# Altium integrated library Protel DOS Schematic Libraries.IntLib: 1273 symbols (part 9 of 9)
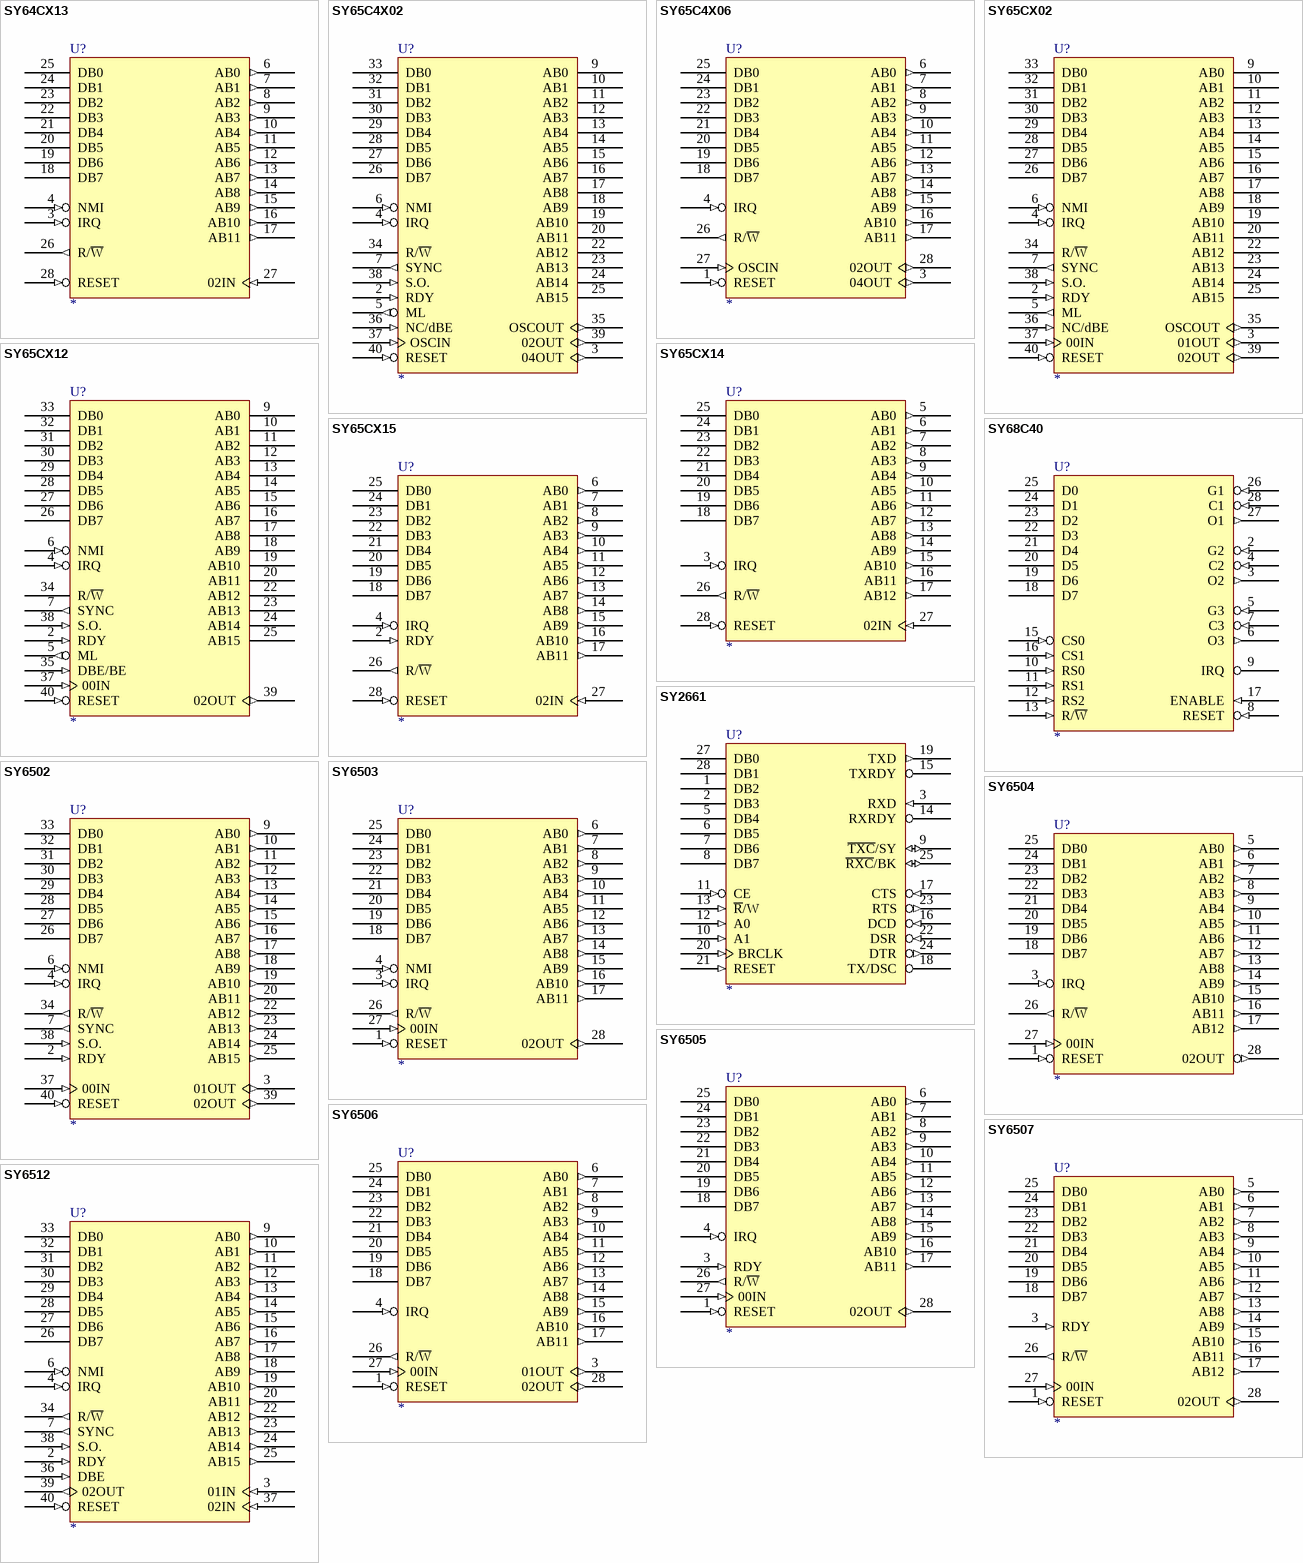
[diagram p77: symbols SY64CX13 to SY6512]

## SY6512
designator U?
footprint DIP-40
pins: 1 GND (power) hidden to GND, 2 RDY (in), 3 01IN (in), 4 IRQ (in), 5 GND (power) hidden to GND, 6 NMI (in), 7 SYNC (out), 8 VCC (power) hidden to VCC, 9 AB0 (out), 10 AB1 (out), 11 AB2 (out), 12 AB3 (out), 13 AB4 (out), 14 AB5 (out), 15 AB6 (out), 16 AB7 (out), 17 AB8 (out), 18 AB9 (out), 19 AB10 (out), 20 AB11 (out), 21 GND (power) hidden to GND, 22 AB12 (out), 23 AB13 (out), 24 AB14 (out), 25 AB15 (out), 26 DB7 (hiz), 27 DB6 (hiz), 28 DB5 (hiz), 29 DB4 (hiz), 30 DB3 (hiz), 31 DB2 (hiz), 32 DB1 (hiz), 33 DB0 (hiz), 34 R/~{W} (out), 36 DBE (in), 37 02IN (in), 38 S.O. (in), 39 02OUT (out), 40 RESET (in)

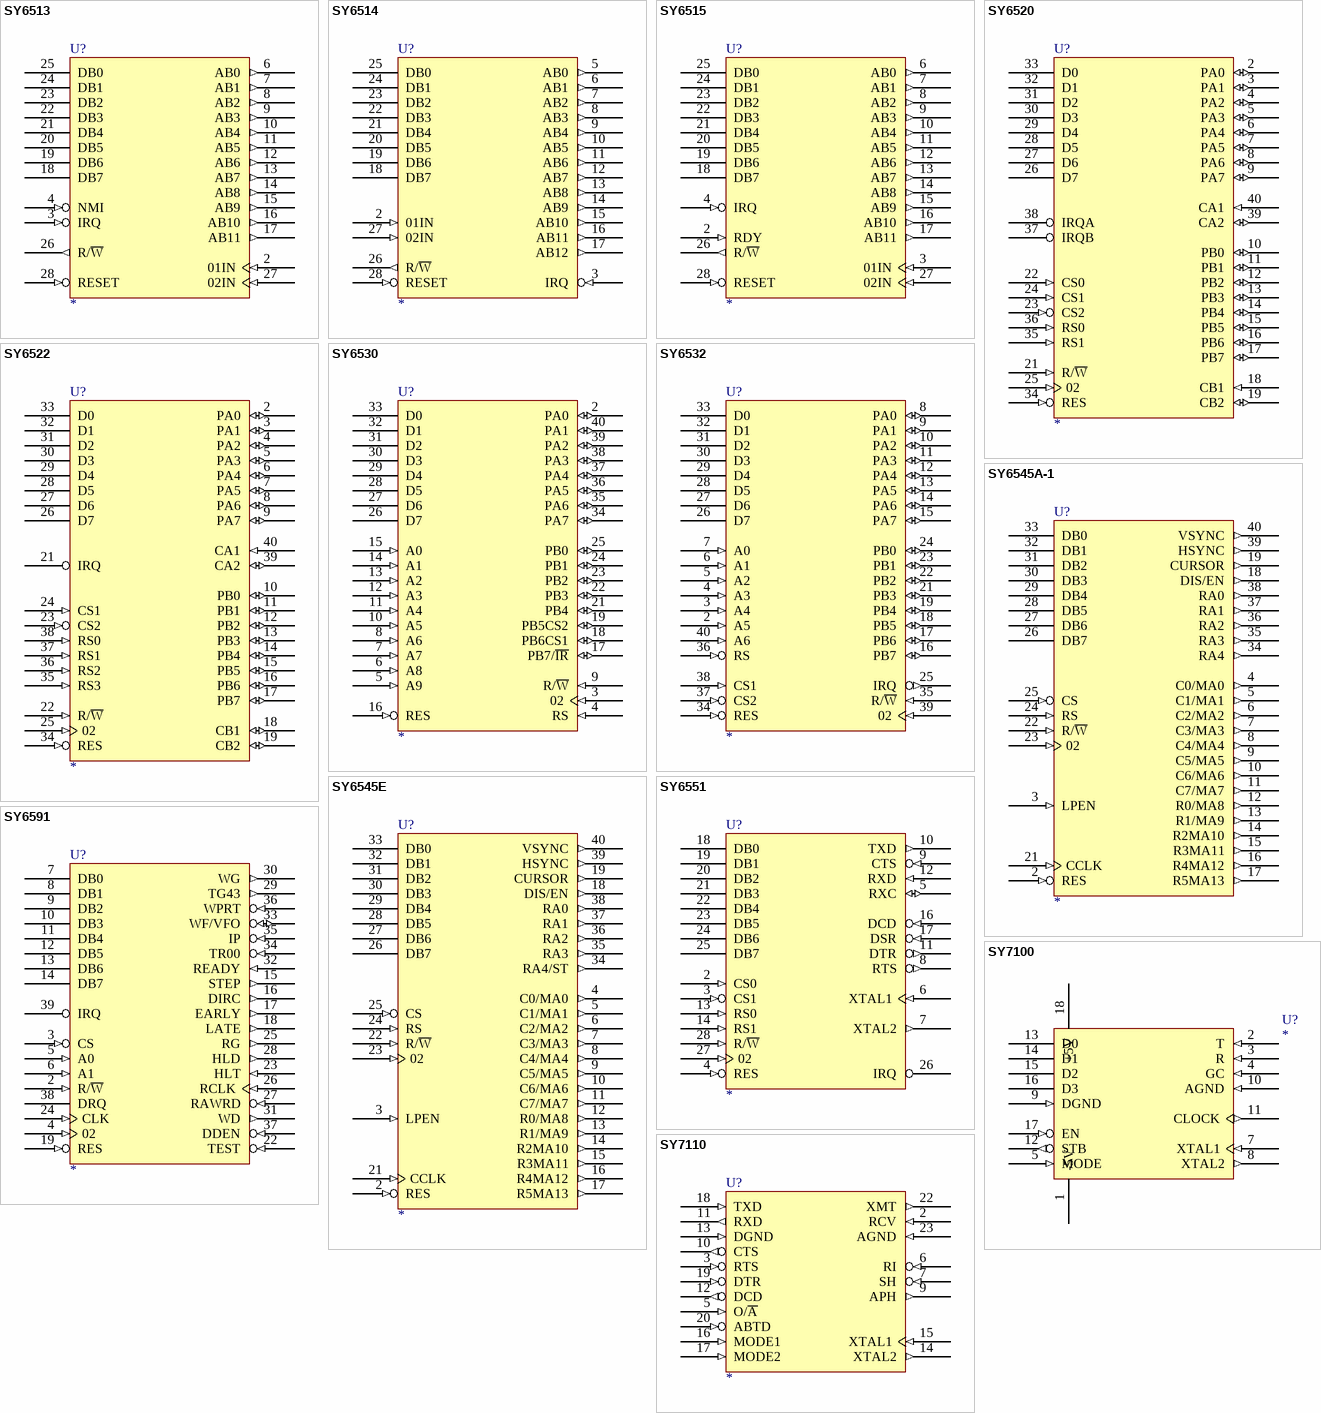
[diagram p66: symbols SY6513 to SY7110]

## SY6513
designator U?
footprint DIP-28
pins: 1 GND (power) hidden to GND, 2 01IN (in), 3 IRQ (in), 4 NMI (in), 5 VCC (power) hidden to VCC, 6 AB0 (out), 7 AB1 (out), 8 AB2 (out), 9 AB3 (out), 10 AB4 (out), 11 AB5 (out), 12 AB6 (out), 13 AB7 (out), 14 AB8 (out), 15 AB9 (out), 16 AB10 (out), 17 AB11 (out), 18 DB7 (hiz), 19 DB6 (hiz), 20 DB5 (hiz), 21 DB4 (hiz), 22 DB3 (hiz), 23 DB2 (hiz), 24 DB1 (hiz), 25 DB0 (hiz), 26 R/~{W} (out), 27 02IN (in), 28 RESET (in)

## SY6514
designator U?
footprint DIP-28
pins: 1 GND (power) hidden to GND, 2 01IN (in), 3 IRQ (in), 4 VCC (power) hidden to VCC, 5 AB0 (out), 6 AB1 (out), 7 AB2 (out), 8 AB3 (out), 9 AB4 (out), 10 AB5 (out), 11 AB6 (out), 12 AB7 (out), 13 AB8 (out), 14 AB9 (out), 15 AB10 (out), 16 AB11 (out), 17 AB12 (out), 18 DB7 (hiz), 19 DB6 (hiz), 20 DB5 (hiz), 21 DB4 (hiz), 22 DB3 (hiz), 23 DB2 (hiz), 24 DB1 (hiz), 25 DB0 (hiz), 26 R/~{W} (out), 27 02IN (in), 28 RESET (in)

## SY6515
designator U?
footprint DIP-28
pins: 1 GND (power) hidden to GND, 2 RDY (in), 3 01IN (in), 4 IRQ (in), 5 VCC (power) hidden to VCC, 6 AB0 (out), 7 AB1 (out), 8 AB2 (out), 9 AB3 (out), 10 AB4 (out), 11 AB5 (out), 12 AB6 (out), 13 AB7 (out), 14 AB8 (out), 15 AB9 (out), 16 AB10 (out), 17 AB11 (out), 18 DB7 (hiz), 19 DB6 (hiz), 20 DB5 (hiz), 21 DB4 (hiz), 22 DB3 (hiz), 23 DB2 (hiz), 24 DB1 (hiz), 25 DB0 (hiz), 26 R/~{W} (out), 27 02IN (in), 28 RESET (in)

## SY6520
designator U?
footprint DIP-40
pins: 1 GND (power) hidden to GND, 2 PA0 (io), 3 PA1 (io), 4 PA2 (io), 5 PA3 (io), 6 PA4 (io), 7 PA5 (io), 8 PA6 (io), 9 PA7 (io), 10 PB0 (io), 11 PB1 (io), 12 PB2 (io), 13 PB3 (io), 14 PB4 (io), 15 PB5 (io), 16 PB6 (io), 17 PB7 (io), 18 CB1 (in), 19 CB2 (io), 20 VCC (power) hidden to VCC, 21 R/~{W} (in), 22 CS0 (in), 23 CS2 (in), 24 CS1 (in), 25 02 (in), 26 D7 (hiz), 27 D6 (hiz), 28 D5 (hiz), 29 D4 (hiz), 30 D3 (hiz), 31 D2 (hiz), 32 D1 (hiz), 33 D0 (hiz), 34 RES (in), 35 RS1 (in), 36 RS0 (in), 37 IRQB (oc), 38 IRQA (oc), 39 CA2 (io), 40 CA1 (in)

## SY6522
designator U?
footprint DIP-40
pins: 1 GND (power) hidden to GND, 2 PA0 (io), 3 PA1 (io), 4 PA2 (io), 5 PA3 (io), 6 PA4 (io), 7 PA5 (io), 8 PA6 (io), 9 PA7 (io), 10 PB0 (io), 11 PB1 (io), 12 PB2 (io), 13 PB3 (io), 14 PB4 (io), 15 PB5 (io), 16 PB6 (io), 17 PB7 (io), 18 CB1 (io), 19 CB2 (io), 20 VCC (power) hidden to VCC, 21 IRQ (oc), 22 R/~{W} (in), 23 CS2 (in), 24 CS1 (in), 25 02 (in), 26 D7 (hiz), 27 D6 (hiz), 28 D5 (hiz), 29 D4 (hiz), 30 D3 (hiz), 31 D2 (hiz), 32 D1 (hiz), 33 D0 (hiz), 34 RES (in), 35 RS3 (in), 36 RS2 (in), 37 RS1 (in), 38 RS0 (in), 39 CA2 (io), 40 CA1 (in)

## SY6530
designator U?
footprint DIP-40
pins: 1 GND (power) hidden to GND, 2 PA0 (io), 3 02 (in), 4 RS (in), 5 A9 (in), 6 A8 (in), 7 A7 (in), 8 A6 (in), 9 R/~{W} (in), 10 A5 (in), 11 A4 (in), 12 A3 (in), 13 A2 (in), 14 A1 (in), 15 A0 (in), 16 RES (in), 17 PB7/~{IR} (io), 18 PB6CS1 (io), 19 PB5CS2 (io), 20 VCC (power) hidden to VCC, 21 PB4 (io), 22 PB3 (io), 23 PB2 (io), 24 PB1 (io), 25 PB0 (io), 26 D7 (hiz), 27 D6 (hiz), 28 D5 (hiz), 29 D4 (hiz), 30 D3 (hiz), 31 D2 (hiz), 32 D1 (hiz), 33 D0 (hiz), 34 PA7 (io), 35 PA6 (io), 36 PA5 (io), 37 PA4 (io), 38 PA3 (io), 39 PA2 (io), 40 PA1 (io)

## SY6532
designator U?
footprint DIP-40
pins: 1 GND (power) hidden to GND, 2 A5 (in), 3 A4 (in), 4 A3 (in), 5 A2 (in), 6 A1 (in), 7 A0 (in), 8 PA0 (io), 9 PA1 (io), 10 PA2 (io), 11 PA3 (io), 12 PA4 (io), 13 PA5 (io), 14 PA6 (io), 15 PA7 (io), 16 PB7 (io), 17 PB6 (io), 18 PB5 (io), 19 PB4 (io), 20 VCC (power) hidden to VCC, 21 PB3 (io), 22 PB2 (io), 23 PB1 (io), 24 PB0 (io), 25 IRQ (out), 26 D7 (hiz), 27 D6 (hiz), 28 D5 (hiz), 29 D4 (hiz), 30 D3 (hiz), 31 D2 (hiz), 32 D1 (hiz), 33 D0 (hiz), 34 RES (in), 35 R/~{W} (in), 36 RS (in), 37 CS2 (in), 38 CS1 (in), 39 02 (in), 40 A6 (in)

## SY6545A-1
designator U?
footprint DIP-40
pins: 1 GND (power) hidden to GND, 2 RES (in), 3 LPEN (in), 4 C0/MA0 (out), 5 C1/MA1 (out), 6 C2/MA2 (out), 7 C3/MA3 (out), 8 C4/MA4 (out), 9 C5/MA5 (out), 10 C6/MA6 (out), 11 C7/MA7 (out), 12 R0/MA8 (out), 13 R1/MA9 (out), 14 R2MA10 (out), 15 R3MA11 (out), 16 R4MA12 (out), 17 R5MA13 (out), 18 DIS/EN (out), 19 CURSOR (out), 20 VCC (power) hidden to VCC, 21 CCLK (in), 22 R/~{W} (in), 23 02 (in), 24 RS (in), 25 CS (in), 26 DB7 (hiz), 27 DB6 (hiz), 28 DB5 (hiz), 29 DB4 (hiz), 30 DB3 (hiz), 31 DB2 (hiz), 32 DB1 (hiz), 33 DB0 (hiz), 34 RA4 (out), 35 RA3 (out), 36 RA2 (out), 37 RA1 (out), 38 RA0 (out), 39 HSYNC (out), 40 VSYNC (out)

## SY6545E
designator U?
footprint DIP-40
pins: 1 GND (power) hidden to GND, 2 RES (in), 3 LPEN (in), 4 C0/MA0 (out), 5 C1/MA1 (out), 6 C2/MA2 (out), 7 C3/MA3 (out), 8 C4/MA4 (out), 9 C5/MA5 (out), 10 C6/MA6 (out), 11 C7/MA7 (out), 12 R0/MA8 (out), 13 R1/MA9 (out), 14 R2MA10 (out), 15 R3MA11 (out), 16 R4MA12 (out), 17 R5MA13 (out), 18 DIS/EN (out), 19 CURSOR (out), 20 VCC (power) hidden to VCC, 21 CCLK (in), 22 R/~{W} (in), 23 02 (in), 24 RS (in), 25 CS (in), 26 DB7 (hiz), 27 DB6 (hiz), 28 DB5 (hiz), 29 DB4 (hiz), 30 DB3 (hiz), 31 DB2 (hiz), 32 DB1 (hiz), 33 DB0 (hiz), 34 RA4/ST (out), 35 RA3 (out), 36 RA2 (out), 37 RA1 (out), 38 RA0 (out), 39 HSYNC (out), 40 VSYNC (out)

## SY6551
designator U?
footprint DIP-28
pins: 1 GND (power) hidden to GND, 2 CS0 (in), 3 CS1 (in), 4 RES (in), 5 RXC (io), 6 XTAL1 (in), 7 XTAL2 (out), 8 RTS (out), 9 CTS (in), 10 TXD (out), 11 DTR (out), 12 RXD (in), 13 RS0 (in), 14 RS1 (in), 15 VCC (power) hidden to VCC, 16 DCD (in), 17 DSR (in), 18 DB0 (hiz), 19 DB1 (hiz), 20 DB2 (hiz), 21 DB3 (hiz), 22 DB4 (hiz), 23 DB5 (hiz), 24 DB6 (hiz), 25 DB7 (hiz), 26 IRQ (oc), 27 02 (in), 28 R/~{W} (in)

## SY6591
designator U?
footprint DIP-40
pins: 2 R/~{W} (in), 3 CS (in), 4 02 (in), 5 A0 (in), 6 A1 (in), 7 DB0 (hiz), 8 DB1 (hiz), 9 DB2 (hiz), 10 DB3 (hiz), 11 DB4 (hiz), 12 DB5 (hiz), 13 DB6 (hiz), 14 DB7 (hiz), 15 STEP (out), 16 DIRC (out), 17 EARLY (out), 18 LATE (out), 19 RES (in), 20 GND (power) hidden to GND, 21 VCC (power) hidden to VCC, 22 TEST (in), 23 HLT (in), 24 CLK (in), 25 RG (out), 26 RCLK (in), 27 RAWRD (in), 28 HLD (out), 29 TG43 (out), 30 WG (out), 31 WD (out), 32 READY (in), 33 WF/VFO (io), 34 TR00 (in), 35 IP (in), 36 WPRT (in), 37 DDEN (in), 38 DRQ (oc), 39 IRQ (oc)

## SY7100
designator U?
footprint DIP-18
pins: 1 -5V (power), 2 T (in), 3 R (in), 4 GC (in), 5 MODE (in), 7 XTAL1 (in), 8 XTAL2 (out), 9 DGND (in), 10 AGND (in), 11 CLOCK (out), 12 STB (out), 13 D0 (hiz), 14 D1 (hiz), 15 D2 (hiz), 16 D3 (hiz), 17 EN (in), 18 +5V (power)

## SY7110
designator U?
footprint DIP-24
pins: 2 RCV (in), 3 RTS (in), 5 O/~{A} (in), 6 RI (in), 7 SH (in), 8 VCC (power) hidden to VCC, 9 APH (out), 10 CTS (out), 11 RXD (out), 12 DCD (out), 13 DGND (in), 14 XTAL2 (out), 15 XTAL1 (in), 16 MODE1 (in), 17 MODE2 (in), 18 TXD (in), 19 DTR (in), 20 ABTD (in), 22 XMT (out), 23 AGND (in), 24 GND (power) hidden to GND


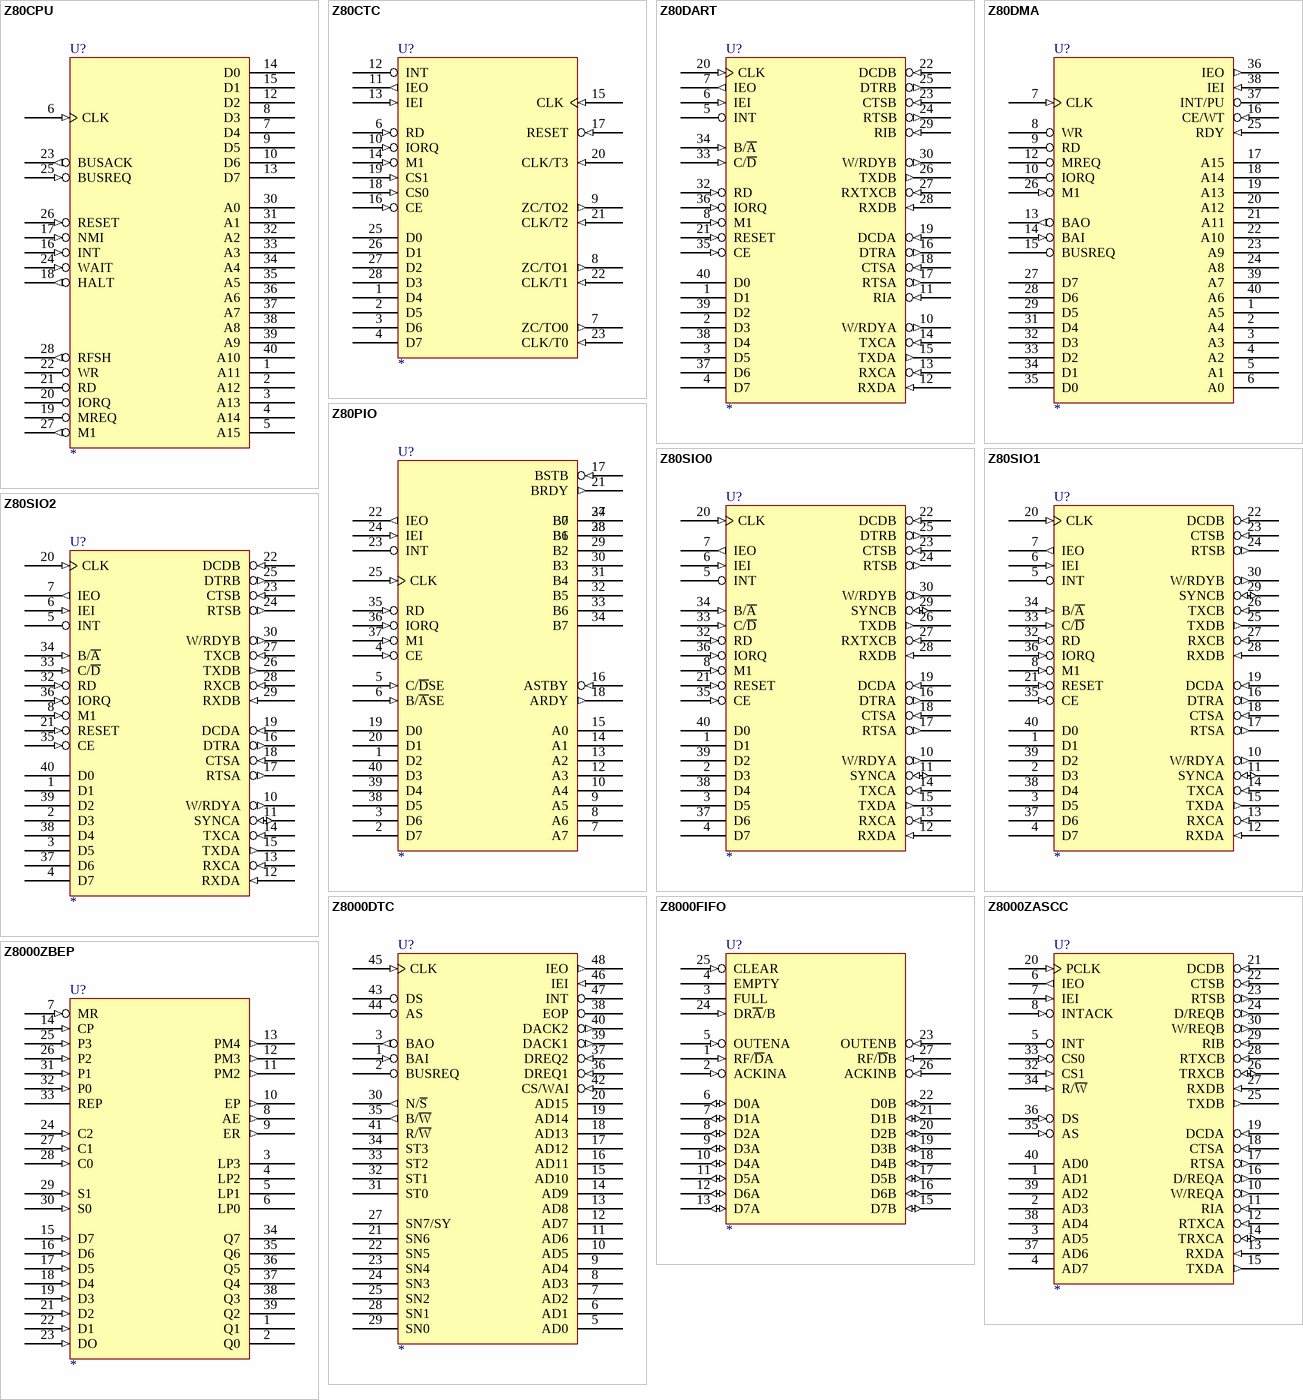
[diagram p67: symbols Z80CPU to Z8000ZBEP]

## Z80CPU
designator U?
footprint DIP-40
pins: 1 A11 (hiz), 2 A12 (hiz), 3 A13 (hiz), 4 A14 (hiz), 5 A15 (hiz), 6 CLK (in), 7 D4 (hiz), 8 D3 (hiz), 9 D5 (hiz), 10 D6 (hiz), 11 VCC (power) hidden to VCC, 12 D2 (hiz), 13 D7 (hiz), 14 D0 (hiz), 15 D1 (hiz), 16 INT (in), 17 NMI (in), 18 HALT (out), 19 MREQ (hiz), 20 IORQ (hiz), 21 RD (hiz), 22 WR (hiz), 23 BUSACK (out), 24 WAIT (in), 25 BUSREQ (in), 26 RESET (in), 27 M1 (out), 28 RFSH (out), 29 GND (power) hidden to GND, 30 A0 (hiz), 31 A1 (hiz), 32 A2 (hiz), 33 A3 (hiz), 34 A4 (hiz), 35 A5 (hiz), 36 A6 (hiz), 37 A7 (hiz), 38 A8 (hiz), 39 A9 (hiz), 40 A10 (hiz)

## Z80CTC
designator U?
footprint DIP-28
pins: 1 D4 (hiz), 2 D5 (hiz), 3 D6 (hiz), 4 D7 (hiz), 5 GND (power) hidden to GND, 6 RD (in), 7 ZC/TO0 (out), 8 ZC/TO1 (out), 9 ZC/TO2 (out), 10 IORQ (in), 11 IEO (out), 12 INT (oc), 13 IEI (in), 14 M1 (in), 15 CLK (in), 16 CE (in), 17 RESET (in), 18 CS0 (in), 19 CS1 (in), 20 CLK/T3 (in), 21 CLK/T2 (in), 22 CLK/T1 (in), 23 CLK/T0 (in), 24 VCC (power) hidden to VCC, 25 D0 (hiz), 26 D1 (hiz), 27 D2 (hiz), 28 D3 (hiz)

## Z80DART
designator U?
footprint DIP-40
pins: 1 D1 (hiz), 2 D3 (hiz), 3 D5 (hiz), 4 D7 (hiz), 5 INT (oc), 6 IEI (in), 7 IEO (out), 8 M1 (in), 9 VCC (power) hidden to VCC, 10 W/RDYA (out), 11 RIA (in), 12 RXDA (in), 13 RXCA (in), 14 TXCA (in), 15 TXDA (out), 16 DTRA (out), 17 RTSA (out), 18 CTSA (in), 19 DCDA (in), 20 CLK (in), 21 RESET (in), 22 DCDB (in), 23 CTSB (in), 24 RTSB (out), 25 DTRB (out), 26 TXDB (out), 27 RXTXCB (in), 28 RXDB (in), 29 RIB (in), 30 W/RDYB (out), 31 GND (power) hidden to GND, 32 RD (in), 33 C/~{D} (in), 34 B/~{A} (in), 35 CE (in), 36 IORQ (in), 37 D6 (hiz), 38 D4 (hiz), 39 D2 (hiz), 40 D0 (hiz)

## Z80DMA
designator U?
footprint DIP-40
pins: 1 A5 (hiz), 2 A4 (hiz), 3 A3 (hiz), 4 A2 (hiz), 5 A1 (hiz), 6 A0 (hiz), 7 CLK (in), 8 WR (hiz), 9 RD (hiz), 10 IORQ (hiz), 11 VCC (power) hidden to VCC, 12 MREQ (hiz), 13 BAO (out), 14 BAI (in), 15 BUSREQ (oc), 16 CE/WT (in), 17 A15 (hiz), 18 A14 (hiz), 19 A13 (hiz), 20 A12 (hiz), 21 A11 (hiz), 22 A10 (hiz), 23 A9 (hiz), 24 A8 (hiz), 25 RDY (in), 26 M1 (in), 27 D7 (hiz), 28 D6 (hiz), 29 D5 (hiz), 30 GND (power) hidden to GND, 31 D4 (hiz), 32 D3 (hiz), 33 D2 (hiz), 34 D1 (hiz), 35 D0 (hiz), 36 IEO (out), 37 INT/PU (oc), 38 IEI (in), 39 A7 (hiz), 40 A6 (hiz)

## Z80PIO
designator U?
footprint DIP-40
pins: 1 D2 (hiz), 2 D7 (hiz), 3 D6 (hiz), 4 CE (in), 5 C/~{D}SE (in), 6 B/~{A}SE (in), 7 A7 (hiz), 8 A6 (hiz), 9 A5 (hiz), 10 A4 (hiz), 11 GND (power) hidden to GND, 12 A3 (hiz), 13 A2 (hiz), 14 A1 (hiz), 15 A0 (hiz), 16 ASTBY (in), 17 BSTB (in), 18 ARDY (out), 19 D0 (hiz), 20 D1 (hiz), 21 BRDY (out), 22 IEO (out), 23 INT (oc), 24 IEI (in), 25 CLK (in), 26 VCC (power) hidden to VCC, 27 B0 (hiz), 28 B1 (hiz), 29 B2 (hiz), 30 B3 (hiz), 31 B4 (hiz), 32 B5 (hiz), 33 B6 (hiz), 33 B6 (hiz), 34 B7 (hiz), 34 B7 (hiz), 35 RD (in), 36 IORQ (in), 37 M1 (in), 38 D5 (hiz), 39 D4 (hiz), 40 D3 (hiz)

## Z80SIO0
designator U?
footprint DIP-40
pins: 1 D1 (hiz), 2 D3 (hiz), 3 D5 (hiz), 4 D7 (hiz), 5 INT (oc), 6 IEI (in), 7 IEO (out), 8 M1 (in), 9 VCC (power) hidden to VCC, 10 W/RDYA (out), 11 SYNCA (io), 12 RXDA (in), 13 RXCA (in), 14 TXCA (in), 15 TXDA (out), 16 DTRA (out), 17 RTSA (out), 18 CTSA (in), 19 DCDA (in), 20 CLK (in), 21 RESET (in), 22 DCDB (in), 23 CTSB (in), 24 RTSB (out), 25 DTRB (out), 26 TXDB (out), 27 RXTXCB (in), 28 RXDB (in), 29 SYNCB (io), 30 W/RDYB (out), 31 GND (power) hidden to GND, 32 RD (in), 33 C/~{D} (in), 34 B/~{A} (in), 35 CE (in), 36 IORQ (in), 37 D6 (hiz), 38 D4 (hiz), 39 D2 (hiz), 40 D0 (hiz)

## Z80SIO1
designator U?
footprint DIP-40
pins: 1 D1 (hiz), 2 D3 (hiz), 3 D5 (hiz), 4 D7 (hiz), 5 INT (oc), 6 IEI (in), 7 IEO (out), 8 M1 (in), 9 VCC (power) hidden to VCC, 10 W/RDYA (out), 11 SYNCA (io), 12 RXDA (in), 13 RXCA (in), 14 TXCA (in), 15 TXDA (out), 16 DTRA (out), 17 RTSA (out), 18 CTSA (in), 19 DCDA (in), 20 CLK (in), 21 RESET (in), 22 DCDB (in), 23 CTSB (in), 24 RTSB (out), 25 TXDB (out), 26 TXCB (in), 27 RXCB (in), 28 RXDB (in), 29 SYNCB (io), 30 W/RDYB (out), 31 GND (power) hidden to GND, 32 RD (in), 33 C/~{D} (in), 34 B/~{A} (in), 35 CE (in), 36 IORQ (in), 37 D6 (hiz), 38 D4 (hiz), 39 D2 (hiz), 40 D0 (hiz)

## Z80SIO2
designator U?
footprint DIP-40
pins: 1 D1 (hiz), 2 D3 (hiz), 3 D5 (hiz), 4 D7 (hiz), 5 INT (oc), 6 IEI (in), 7 IEO (out), 8 M1 (in), 9 VCC (power) hidden to VCC, 10 W/RDYA (out), 11 SYNCA (io), 12 RXDA (in), 13 RXCA (in), 14 TXCA (in), 15 TXDA (out), 16 DTRA (out), 17 RTSA (out), 18 CTSA (in), 19 DCDA (in), 20 CLK (in), 21 RESET (in), 22 DCDB (in), 23 CTSB (in), 24 RTSB (out), 25 DTRB (out), 26 TXDB (out), 27 TXCB (in), 28 RXCB (in), 29 RXDB (in), 30 W/RDYB (out), 31 GND (power) hidden to GND, 32 RD (in), 33 C/~{D} (in), 34 B/~{A} (in), 35 CE (in), 36 IORQ (in), 37 D6 (hiz), 38 D4 (hiz), 39 D2 (hiz), 40 D0 (hiz)

## Z8000DTC
designator U?
footprint DIP-48
pins: 1 BAI (in), 2 BUSREQ (hiz), 3 BAO (out), 4 VCC (power) hidden to VCC, 5 AD0 (hiz), 6 AD1 (hiz), 7 AD2 (hiz), 8 AD3 (hiz), 9 AD4 (hiz), 10 AD5 (hiz), 11 AD6 (hiz), 12 AD7 (hiz), 13 AD8 (hiz), 14 AD9 (hiz), 15 AD10 (hiz), 16 AD11 (hiz), 17 AD12 (hiz), 18 AD13 (hiz), 19 AD14 (hiz), 20 AD15 (hiz), 21 SN6 (hiz), 22 SN5 (hiz), 23 SN4 (hiz), 24 SN3 (hiz), 25 SN2 (hiz), 26 GND (power) hidden to GND, 27 SN7/SY (hiz), 28 SN1 (hiz), 29 SN0 (hiz), 30 N/~{S} (out), 31 ST0 (hiz), 32 ST1 (hiz), 33 ST2 (hiz), 34 ST3 (hiz), 35 B/~{W} (out), 36 DREQ1 (in), 37 DREQ2 (in), 38 EOP (hiz), 39 DACK1 (out), 40 DACK2 (out), 41 R/~{W} (hiz), 42 CS/WAI (in), 43 DS (hiz), 44 AS (hiz), 45 CLK (in), 46 IEI (in), 47 INT (oc), 48 IEO (out)

## Z8000FIFO
designator U?
footprint DIP-28
pins: 1 RF/~{D}A (in), 2 ACKINA (in), 3 FULL (oc), 4 EMPTY (oc), 5 OUTENA (in), 6 D0A (io), 7 D1A (io), 8 D2A (io), 9 D3A (io), 10 D4A (io), 11 D5A (io), 12 D6A (io), 13 D7A (io), 14 GND (power) hidden to GND, 15 D7B (io), 16 D6B (io), 17 D5B (io), 18 D4B (io), 19 D3B (io), 20 D2B (io), 21 D1B (io), 22 D0B (io), 23 OUTENB (in), 24 DR~{A}/B (in), 25 CLEAR (in), 26 ACKINB (in), 27 RF/~{D}B (in), 28 VCC (power) hidden to VCC

## Z8000ZASCC
designator U?
footprint DIP-40
pins: 1 AD1 (hiz), 2 AD3 (hiz), 3 AD5 (hiz), 4 AD7 (hiz), 5 INT (oc), 6 IEO (out), 7 IEI (in), 8 INTACK (in), 9 VCC (power) hidden to VCC, 10 W/REQA (out), 11 RIA (in), 12 RTXCA (in), 13 RXDA (in), 14 TRXCA (io), 15 TXDA (out), 16 D/REQA (out), 17 RTSA (out), 18 CTSA (in), 19 DCDA (in), 20 PCLK (in), 21 DCDB (in), 22 CTSB (in), 23 RTSB (out), 24 D/REQB (out), 25 TXDB (out), 26 TRXCB (io), 27 RXDB (in), 28 RTXCB (in), 29 RIB (in), 30 W/REQB (out), 31 GND (power) hidden to GND, 32 CS1 (in), 33 CS0 (in), 34 R/~{W} (in), 35 AS (in), 36 DS (in), 37 AD6 (hiz), 38 AD4 (hiz), 39 AD2 (hiz), 40 AD0 (hiz)

## Z8000ZBEP
designator U?
footprint DIP-40
pins: 1 Q1 (hiz), 2 Q0 (hiz), 3 LP3 (hiz), 4 LP2 (hiz), 5 LP1 (hiz), 6 LP0 (hiz), 7 MR (in), 8 AE (out), 9 ER (out), 10 EP (out), 11 PM2 (out), 12 PM3 (out), 13 PM4 (out), 14 CP (in), 15 D7 (in), 16 D6 (in), 17 D5 (in), 18 D4 (in), 19 D3 (in), 20 GND (power) hidden to GND, 21 D2 (in), 22 D1 (in), 23 DO (in), 24 C2 (in), 25 P3 (in), 26 P2 (in), 27 C1 (in), 28 C0 (in), 29 S1 (in), 30 S0 (in), 31 P1 (in), 32 P0 (in), 33 REP (hiz), 34 Q7 (hiz), 35 Q6 (hiz), 36 Q5 (hiz), 37 Q4 (hiz), 38 Q3 (hiz), 39 Q2 (hiz), 40 VCC (power) hidden to VCC

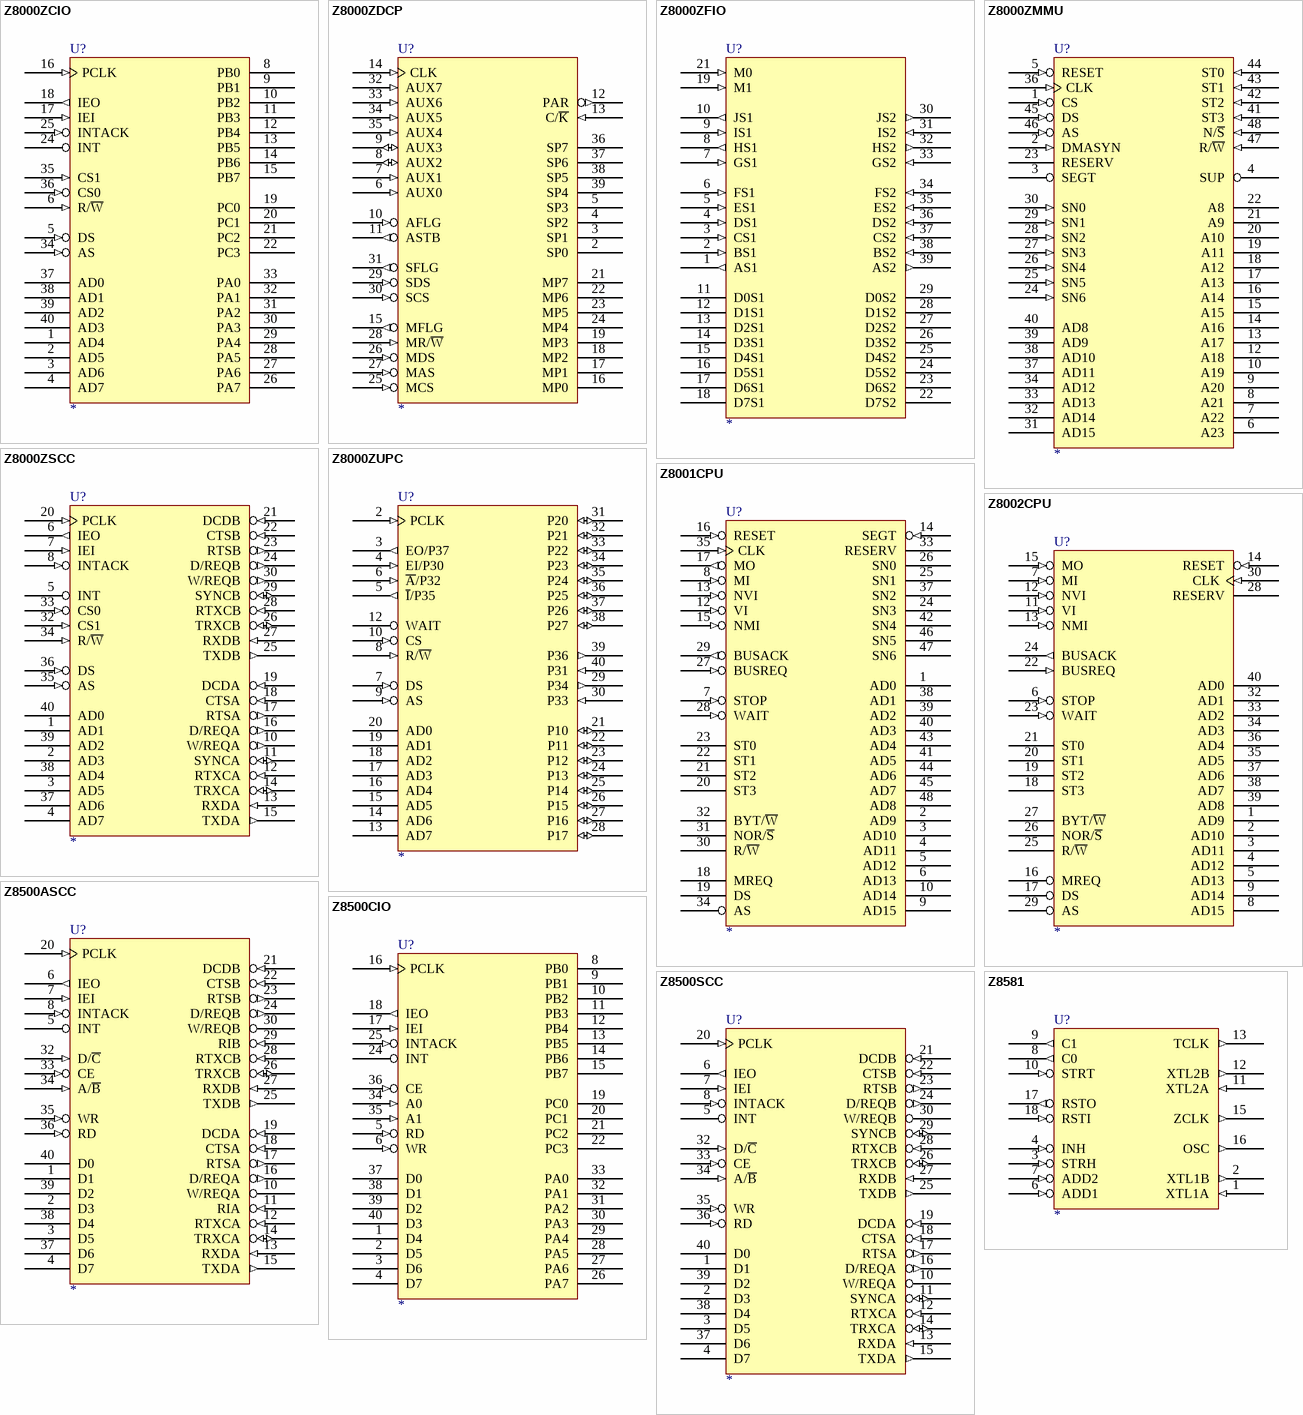
[diagram p68: symbols Z8000ZCIO to Z8581]

## Z8000ZCIO
designator U?
footprint DIP-40
pins: 1 AD4 (hiz), 2 AD5 (hiz), 3 AD6 (hiz), 4 AD7 (hiz), 5 DS (in), 6 R/~{W} (in), 7 GND (power) hidden to GND, 8 PB0 (hiz), 9 PB1 (hiz), 10 PB2 (hiz), 11 PB3 (hiz), 12 PB4 (hiz), 13 PB5 (hiz), 14 PB6 (hiz), 15 PB7 (hiz), 16 PCLK (in), 17 IEI (in), 18 IEO (out), 19 PC0 (hiz), 20 PC1 (hiz), 21 PC2 (hiz), 22 PC3 (hiz), 23 VCC (power) hidden to VCC, 24 INT (oc), 25 INTACK (in), 26 PA7 (hiz), 27 PA6 (hiz), 28 PA5 (hiz), 29 PA4 (hiz), 30 PA3 (hiz), 31 PA2 (hiz), 32 PA1 (hiz), 33 PA0 (hiz), 34 AS (in), 35 CS1 (in), 36 CS0 (in), 37 AD0 (hiz), 38 AD1 (hiz), 39 AD2 (hiz), 40 AD3 (hiz)

## Z8000ZDCP
designator U?
footprint DIP-40
pins: 1 GND (power) hidden to GND, 2 SP0 (hiz), 3 SP1 (hiz), 4 SP2 (hiz), 5 SP3 (hiz), 6 AUX0 (in), 7 AUX1 (in), 8 AUX2 (io), 9 AUX3 (io), 10 AFLG (in), 11 ASTB (out), 12 PAR (out), 13 C/~{K} (in), 14 CLK (in), 15 MFLG (out), 16 MP0 (hiz), 17 MP1 (hiz), 18 MP2 (hiz), 19 MP3 (hiz), 20 GND (power) hidden to GND, 21 MP7 (hiz), 22 MP6 (hiz), 23 MP5 (hiz), 24 MP4 (hiz), 25 MCS (in), 26 MDS (in), 27 MAS (in), 28 MR/~{W} (in), 29 SDS (in), 30 SCS (in), 31 SFLG (out), 32 AUX7 (in), 33 AUX6 (in), 34 AUX5 (in), 35 AUX4 (in), 36 SP7 (hiz), 37 SP6 (hiz), 38 SP5 (hiz), 39 SP4 (hiz), 40 VCC (power) hidden to VCC

## Z8000ZFIO
designator U?
footprint DIP-40
pins: 1 AS1 (out), 2 BS1 (in), 3 CS1 (in), 4 DS1 (in), 5 ES1 (in), 6 FS1 (in), 7 GS1 (in), 8 HS1 (out), 9 IS1 (in), 10 JS1 (out), 11 D0S1 (hiz), 12 D1S1 (hiz), 13 D2S1 (hiz), 14 D3S1 (hiz), 15 D4S1 (hiz), 16 D5S1 (hiz), 17 D6S1 (hiz), 18 D7S1 (hiz), 19 M1 (in), 20 GND (power) hidden to GND, 21 M0 (in), 22 D7S2 (hiz), 23 D6S2 (hiz), 24 D5S2 (hiz), 25 D4S2 (hiz), 26 D3S2 (hiz), 27 D2S2 (hiz), 28 D1S2 (hiz), 29 D0S2 (hiz), 30 JS2 (out), 31 IS2 (in), 32 HS2 (out), 33 GS2 (in), 34 FS2 (in), 35 ES2 (in), 36 DS2 (in), 37 CS2 (in), 38 BS2 (in), 39 AS2 (out), 40 VCC (power) hidden to VCC

## Z8000ZMMU
designator U?
footprint DIP-48
pins: 1 CS (in), 2 DMASYN (in), 3 SEGT (oc), 4 SUP (oc), 5 RESET (in), 6 A23 (hiz), 7 A22 (hiz), 8 A21 (hiz), 9 A20 (hiz), 10 A19 (hiz), 11 VCC (power) hidden to VCC, 12 A18 (hiz), 13 A17 (hiz), 14 A16 (hiz), 15 A15 (hiz), 16 A14 (hiz), 17 A13 (hiz), 18 A12 (hiz), 19 A11 (hiz), 20 A10 (hiz), 21 A9 (hiz), 22 A8 (hiz), 23 RESERV, 24 SN6 (in), 25 SN5 (in), 26 SN4 (in), 27 SN3 (in), 28 SN2 (in), 29 SN1 (in), 30 SN0 (in), 31 AD15 (hiz), 32 AD14 (hiz), 33 AD13 (hiz), 34 AD12 (hiz), 35 GND (power) hidden to GND, 36 CLK (in), 37 AD11 (hiz), 38 AD10 (hiz), 39 AD9 (hiz), 40 AD8 (hiz), 41 ST3 (in), 42 ST2 (in), 43 ST1 (in), 44 ST0 (in), 45 DS (in), 46 AS (in), 47 R/~{W} (in), 48 N/~{S} (in)

## Z8000ZSCC
designator U?
footprint DIP-40
pins: 1 AD1 (hiz), 2 AD3 (hiz), 3 AD5 (hiz), 4 AD7 (hiz), 5 INT (oc), 6 IEO (out), 7 IEI (in), 8 INTACK (in), 9 VCC (power) hidden to VCC, 10 W/REQA (out), 11 SYNCA (io), 12 RTXCA (in), 13 RXDA (in), 14 TRXCA (io), 15 TXDA (out), 16 D/REQA (out), 17 RTSA (out), 18 CTSA (in), 19 DCDA (in), 20 PCLK (in), 21 DCDB (in), 22 CTSB (in), 23 RTSB (out), 24 D/REQB (out), 25 TXDB (out), 26 TRXCB (io), 27 RXDB (in), 28 RTXCB (in), 29 SYNCB (io), 30 W/REQB (out), 31 GND (power) hidden to GND, 32 CS1 (in), 33 CS0 (in), 34 R/~{W} (in), 35 AS (in), 36 DS (in), 37 AD6 (hiz), 38 AD4 (hiz), 39 AD2 (hiz), 40 AD0 (hiz)

## Z8000ZUPC
designator U?
footprint DIP-40
pins: 1 VCC (power) hidden to VCC, 2 PCLK (in), 3 EO/P37 (out), 4 EI/P30 (in), 5 ~{I}/P35 (out), 6 ~{A}/P32 (in), 7 DS (in), 8 R/~{W} (in), 9 AS (in), 10 CS (in), 11 GND (power) hidden to GND, 12 WAIT (oc), 13 AD7 (hiz), 14 AD6 (hiz), 15 AD5 (hiz), 16 AD4 (hiz), 17 AD3 (hiz), 18 AD2 (hiz), 19 AD1 (hiz), 20 AD0 (hiz), 21 P10 (io), 22 P11 (io), 23 P12 (io), 24 P13 (io), 25 P14 (io), 26 P15 (io), 27 P16 (io), 28 P17 (io), 29 P34 (out), 30 P33 (in), 31 P20 (io), 32 P21 (io), 33 P22 (io), 34 P23 (io), 35 P24 (io), 36 P25 (io), 37 P26 (io), 38 P27 (io), 39 P36 (out), 40 P31 (in)

## Z8001CPU
designator U?
footprint DIP-48
pins: 1 AD0 (hiz), 2 AD9 (hiz), 3 AD10 (hiz), 4 AD11 (hiz), 5 AD12 (hiz), 6 AD13 (hiz), 7 STOP (in), 8 MI (in), 9 AD15 (hiz), 10 AD14 (hiz), 11 VCC (power) hidden to VCC, 12 VI (in), 13 NVI (in), 14 SEGT (in), 15 NMI (in), 16 RESET (in), 17 MO (out), 18 MREQ (hiz), 19 DS (hiz), 20 ST3 (hiz), 21 ST2 (hiz), 22 ST1 (hiz), 23 ST0 (hiz), 24 SN3 (hiz), 25 SN1 (hiz), 26 SN0 (hiz), 27 BUSREQ (in), 28 WAIT (in), 29 BUSACK (out), 30 R/~{W} (hiz), 31 NOR/~{S} (hiz), 32 BYT/~{W} (hiz), 33 RESERV, 34 AS (hiz), 35 CLK (in), 36 GND (power) hidden to GND, 37 SN2 (hiz), 38 AD1 (hiz), 39 AD2 (hiz), 40 AD3 (hiz), 41 AD5 (hiz), 42 SN4 (hiz), 43 AD4 (hiz), 44 AD6 (hiz), 45 AD7 (hiz), 46 SN5 (hiz), 47 SN6 (hiz), 48 AD8 (hiz)

## Z8002CPU
designator U?
footprint DIP-40
pins: 1 AD9 (hiz), 2 AD10 (hiz), 3 AD11 (hiz), 4 AD12 (hiz), 5 AD13 (hiz), 6 STOP (in), 7 MI (in), 8 AD15 (hiz), 9 AD14 (hiz), 10 VCC (power) hidden to VCC, 11 VI (in), 12 NVI (in), 13 NMI (in), 14 RESET (in), 15 MO (in), 16 MREQ (hiz), 17 DS (hiz), 18 ST3 (hiz), 19 ST2 (hiz), 20 ST1 (hiz), 21 ST0 (hiz), 22 BUSREQ (in), 23 WAIT (in), 24 BUSACK (out), 25 R/~{W} (hiz), 26 NOR/~{S} (hiz), 27 BYT/~{W} (hiz), 28 RESERV, 29 AS (hiz), 30 CLK (in), 31 GND (power) hidden to GND, 32 AD1 (hiz), 33 AD2 (hiz), 34 AD3 (hiz), 35 AD5 (hiz), 36 AD4 (hiz), 37 AD6 (hiz), 38 AD7 (hiz), 39 AD8 (hiz), 40 AD0 (hiz)

## Z8500ASCC
designator U?
footprint DIP-40
pins: 1 D1 (hiz), 2 D3 (hiz), 3 D5 (hiz), 4 D7 (hiz), 5 INT (oc), 6 IEO (out), 7 IEI (in), 8 INTACK (in), 9 VCC (power) hidden to VCC, 10 W/REQA (oc), 11 RIA (in), 12 RTXCA (in), 13 RXDA (in), 14 TRXCA (io), 15 TXDA (out), 16 D/REQA (out), 17 RTSA (out), 18 CTSA (in), 19 DCDA (in), 20 PCLK (in), 21 DCDB (in), 22 CTSB (in), 23 RTSB (out), 24 D/REQB (out), 25 TXDB (out), 26 TRXCB (io), 27 RXDB (in), 28 RTXCB (in), 29 RIB (in), 30 W/REQB (oc), 31 GND (power) hidden to GND, 32 D/~{C} (in), 33 CE (in), 34 A/~{B} (in), 35 WR (in), 36 RD (in), 37 D6 (hiz), 38 D4 (hiz), 39 D2 (hiz), 40 D0 (hiz)

## Z8500CIO
designator U?
footprint DIP-40
pins: 1 D4 (hiz), 2 D5 (hiz), 3 D6 (hiz), 4 D7 (hiz), 5 RD (in), 6 WR (in), 7 GND (power) hidden to GND, 8 PB0 (hiz), 9 PB1 (hiz), 10 PB2 (hiz), 11 PB3 (hiz), 12 PB4 (hiz), 13 PB5 (hiz), 14 PB6 (hiz), 15 PB7 (hiz), 16 PCLK (in), 17 IEI (in), 18 IEO (out), 19 PC0 (hiz), 20 PC1 (hiz), 21 PC2 (hiz), 22 PC3 (hiz), 23 VCC (power) hidden to VCC, 24 INT (oc), 25 INTACK (in), 26 PA7 (hiz), 27 PA6 (hiz), 28 PA5 (hiz), 29 PA4 (hiz), 30 PA3 (hiz), 31 PA2 (hiz), 32 PA1 (hiz), 33 PA0 (hiz), 34 A0 (in), 35 A1 (in), 36 CE (in), 37 D0 (hiz), 38 D1 (hiz), 39 D2 (hiz), 40 D3 (hiz)

## Z8500SCC
designator U?
footprint DIP-40
pins: 1 D1 (hiz), 2 D3 (hiz), 3 D5 (hiz), 4 D7 (hiz), 5 INT (oc), 6 IEO (out), 7 IEI (in), 8 INTACK (in), 9 VCC (power) hidden to VCC, 10 W/REQA (oc), 11 SYNCA (io), 12 RTXCA (in), 13 RXDA (in), 14 TRXCA (io), 15 TXDA (out), 16 D/REQA (out), 17 RTSA (out), 18 CTSA (in), 19 DCDA (in), 20 PCLK (in), 21 DCDB (in), 22 CTSB (in), 23 RTSB (out), 24 D/REQB (out), 25 TXDB (out), 26 TRXCB (io), 27 RXDB (in), 28 RTXCB (in), 29 SYNCB (io), 30 W/REQB (oc), 31 GND (power) hidden to GND, 32 D/~{C} (in), 33 CE (in), 34 A/~{B} (in), 35 WR (in), 36 RD (in), 37 D6 (hiz), 38 D4 (hiz), 39 D2 (hiz), 40 D0 (hiz)

## Z8581
designator U?
footprint DIP-18
pins: 1 XTL1A (in), 2 XTL1B (out), 3 STRH (in), 4 INH (in), 5 VCC (power) hidden to VCC, 6 ADD1 (in), 7 ADD2 (in), 8 C0 (out), 9 C1 (out), 10 STRT (in), 11 XTL2A (in), 12 XTL2B (out), 13 TCLK (out), 14 GND (power) hidden to GND, 15 ZCLK (out), 16 OSC (out), 17 RSTO (out), 18 RSTI (in)

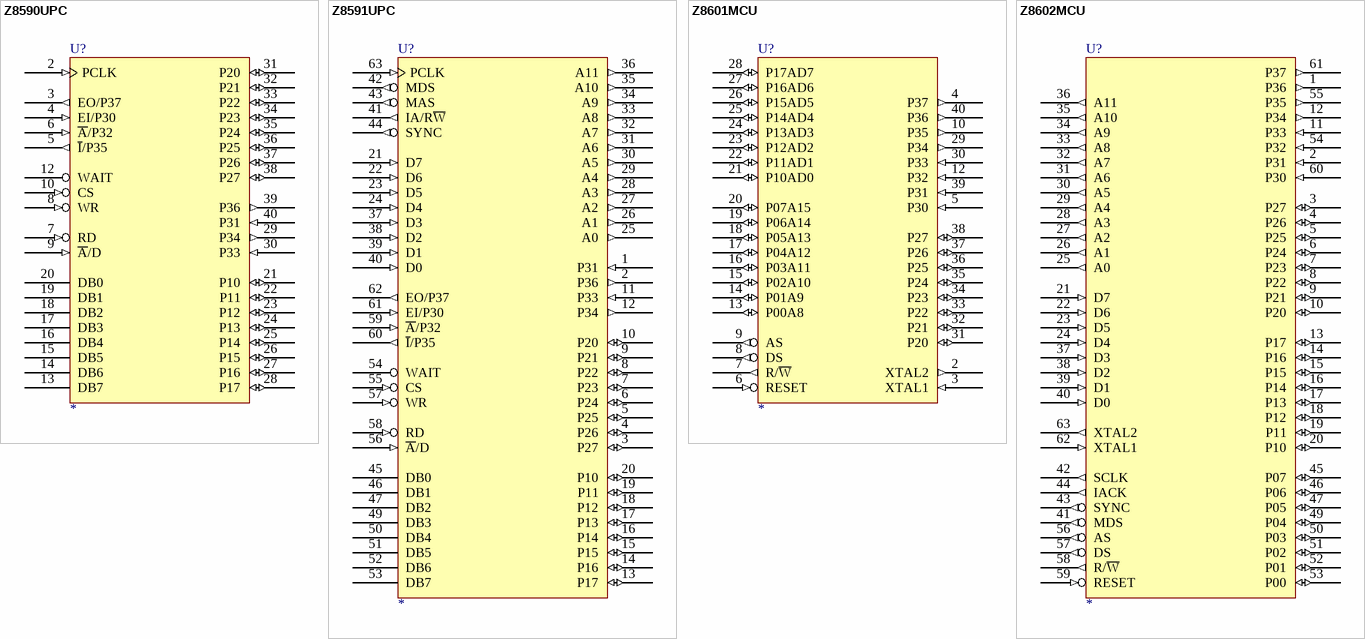
[diagram p69: symbols Z8590UPC to Z8602MCU]

## Z8590UPC
designator U?
footprint DIP-40
pins: 1 VCC (power) hidden to VCC, 2 PCLK (in), 3 EO/P37 (out), 4 EI/P30 (in), 5 ~{I}/P35 (out), 6 ~{A}/P32 (in), 7 RD (in), 8 WR (in), 9 ~{A}/D (in), 10 CS (in), 11 GND (power) hidden to GND, 12 WAIT (oc), 13 DB7 (hiz), 14 DB6 (hiz), 15 DB5 (hiz), 16 DB4 (hiz), 17 DB3 (hiz), 18 DB2 (hiz), 19 DB1 (hiz), 20 DB0 (hiz), 21 P10 (io), 22 P11 (io), 23 P12 (io), 24 P13 (io), 25 P14 (io), 26 P15 (io), 27 P16 (io), 28 P17 (io), 29 P34 (out), 30 P33 (in), 31 P20 (io), 32 P21 (io), 33 P22 (io), 34 P23 (io), 35 P24 (io), 36 P25 (io), 37 P26 (io), 38 P27 (io), 39 P36 (out), 40 P31 (in)

## Z8591UPC
designator U?
footprint DIP-64
pins: 1 P31 (in), 2 P36 (out), 3 P27 (io), 4 P26 (io), 5 P25 (io), 6 P24 (io), 7 P23 (io), 8 P22 (io), 9 P21 (io), 10 P20 (io), 11 P33 (in), 12 P34 (out), 13 P17 (io), 14 P16 (io), 15 P15 (io), 16 P14 (io), 17 P13 (io), 18 P12 (io), 19 P11 (io), 20 P10 (io), 21 D7 (in), 22 D6 (in), 23 D5 (in), 24 D4 (in), 25 A0 (out), 26 A1 (out), 27 A2 (out), 28 A3 (out), 29 A4 (out), 30 A5 (out), 31 A6 (out), 32 A7 (out), 33 A8 (out), 34 A9 (out), 35 A10 (out), 36 A11 (out), 37 D3 (in), 38 D2 (in), 39 D1 (in), 40 D0 (in), 41 IA/R~{W} (out), 42 MDS (out), 43 MAS (out), 44 SYNC (out), 45 DB0 (hiz), 46 DB1 (hiz), 47 DB2 (hiz), 48 GND (power) hidden to GND, 49 DB3 (hiz), 50 DB4 (hiz), 51 DB5 (hiz), 52 DB6 (hiz), 53 DB7 (hiz), 54 WAIT (oc), 55 CS (in), 56 ~{A}/D (in), 57 WR (in), 58 RD (in), 59 ~{A}/P32 (in), 60 ~{I}/P35 (out), 61 EI/P30 (in), 62 EO/P37 (out), 63 PCLK (in), 64 VCC (power) hidden to VCC

## Z8601MCU
designator U?
footprint DIP-40
pins: 1 VCC (power) hidden to VCC, 2 XTAL2 (out), 3 XTAL1 (in), 4 P37 (out), 5 P30 (in), 6 RESET (in), 7 R/~{W} (out), 8 DS (out), 9 AS (out), 10 P35 (out), 11 GND (power) hidden to GND, 12 P32 (in), 13 P00A8 (io), 14 P01A9 (io), 15 P02A10 (io), 16 P03A11 (io), 17 P04A12 (io), 18 P05A13 (io), 19 P06A14 (io), 20 P07A15 (io), 21 P10AD0 (io), 22 P11AD1 (io), 23 P12AD2 (io), 24 P13AD3 (io), 25 P14AD4 (io), 26 P15AD5 (io), 27 P16AD6 (io), 28 P17AD7 (io), 29 P34 (out), 30 P33 (in), 31 P20 (io), 32 P21 (io), 33 P22 (io), 34 P23 (io), 35 P24 (io), 36 P25 (io), 37 P26 (io), 38 P27 (io), 39 P31 (in), 40 P36 (out)

## Z8602MCU
designator U?
footprint DIP-64
pins: 1 P36 (out), 2 P31 (in), 3 P27 (io), 4 P26 (io), 5 P25 (io), 6 P24 (io), 7 P23 (io), 8 P22 (io), 9 P21 (io), 10 P20 (io), 11 P33 (in), 12 P34 (out), 13 P17 (io), 14 P16 (io), 15 P15 (io), 16 P14 (io), 17 P13 (io), 18 P12 (io), 19 P11 (io), 20 P10 (io), 21 D7 (in), 22 D6 (in), 23 D5 (in), 24 D4 (in), 25 A0 (out), 26 A1 (out), 27 A2 (out), 28 A3 (out), 29 A4 (out), 30 A5 (out), 31 A6 (out), 32 A7 (out), 33 A8 (out), 34 A9 (out), 35 A10 (out), 36 A11 (out), 37 D3 (in), 38 D2 (in), 39 D1 (in), 40 D0 (in), 41 MDS (out), 42 SCLK (out), 43 SYNC (out), 44 IACK (out), 45 P07 (io), 46 P06 (io), 47 P05 (io), 48 GND (power) hidden to GND, 49 P04 (io), 50 P03 (io), 51 P02 (io), 52 P01 (io), 53 P00 (io), 54 P32 (in), 55 P35 (out), 56 AS (out), 57 DS (out), 58 R/~{W} (out), 59 RESET (in), 60 P30 (in), 61 P37 (out), 62 XTAL1 (in), 63 XTAL2 (out), 64 VCC (power) hidden to VCC